# EAGLE library part MLX90393ELW-ABA-011-SP (library MLX90393ELW-ABA-011-SP)
Board Mount Hall Effect / Magnetic Sensors Triaxis Micropower Magnetometer Source: Datasheet <https://www.melexis.com/-/media/files/documents/datasheets/mlx90393-datasheet-melexis.pdf>
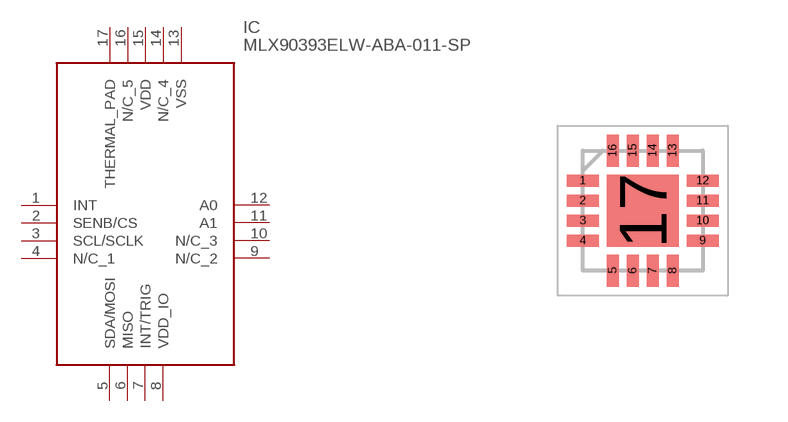
[diagram p0: symbol with the pads of QFN50P300X300X100-17N; footprint QFN50P300X300X100-17N]

Designator prefix IC

## MLX90393ELW-ABA-011-SP (Arrow_Part_Number: MLX90393ELW-ABA-011-SP; Description: Board Mount Hall Effect / Magnetic Sensors Triaxis Micropower Magnetometer; Height: 1mm; Manufacturer_Name: Melexis; Manufacturer_Part_Number: MLX90393ELW-ABA-011-SP)  [QFN50P300X300X100-17N]
1  INT
2  SENB/CS
3  SCL/SCLK
4  N/C_1
5  SDA/MOSI
6  MISO
7  INT/TRIG
8  VDD_IO
9  N/C_2
10  N/C_3
11  A1
12  A0
13  VSS
14  N/C_4
15  VDD
16  N/C_5
17  THERMAL_PAD

## Footprint QFN50P300X300X100-17N (pad centres in mm)
QFN-16
smd 0.8 x 0.3: 1 -1.5,0.75; 2 -1.5,0.25; 3 -1.5,-0.25; 4 -1.5,-0.75; 9 1.5,-0.75; 10 1.5,-0.25; 11 1.5,0.25; 12 1.5,0.75
smd 0.3 x 0.8: 5 -0.75,-1.5; 6 -0.25,-1.5; 7 0.25,-1.5; 8 0.75,-1.5; 13 0.75,1.5; 14 0.25,1.5; 15 -0.25,1.5; 16 -0.75,1.5
smd 1.8 x 1.8: 17 0,0